# EAGLE library part MAX3093_3094 (library SKAARHOJ)
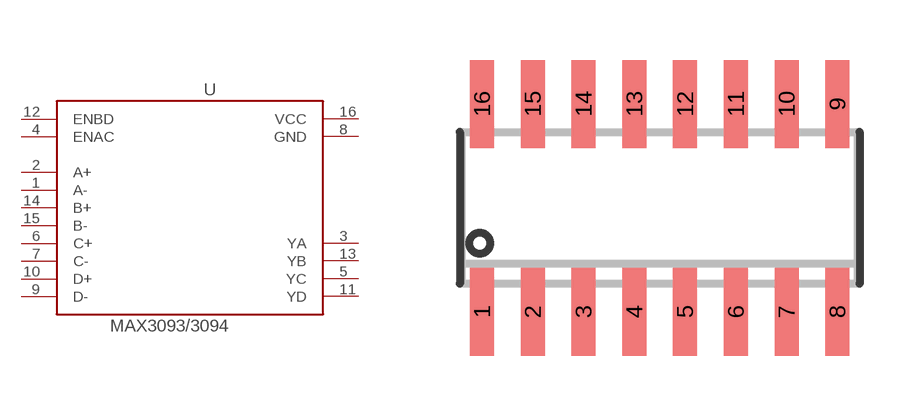
[diagram p50: symbol with the pads of SOIC16; footprint SOIC16]

Designator prefix -

## MAX3093_3094  [SOIC16]
1  A-  in
2  A+  in
3  YA  out
4  ENAC  in
5  YC  out
6  C+  in
7  C-  in
8  GND  pwr
9  D-  in
10  D+  in
11  YD  out
12  ENBD  in
13  YB  out
14  B+  in
15  B-  in
16  VCC  pwr

## Footprint SOIC16 (pad centres in mm)
SMALL OUTLINE INTEGRATED CIRCUIT
smd 0.6 x 2.2: 1 -4.445,-2.6; 2 -3.175,-2.6; 3 -1.905,-2.6; 4 -0.635,-2.6; 5 0.635,-2.6; 6 1.905,-2.6; 7 3.175,-2.6; 8 4.445,-2.6; 9 4.445,2.6; 10 3.175,2.6; 11 1.905,2.6; 12 0.635,2.6; 13 -0.635,2.6; 14 -1.905,2.6; 15 -3.175,2.6; 16 -4.445,2.6